# Altium integrated library FPGA NB3000 Port-Plugin.IntLib: 58 symbols
Pins are listed as number, name and electrical type; pins without a type are passive.

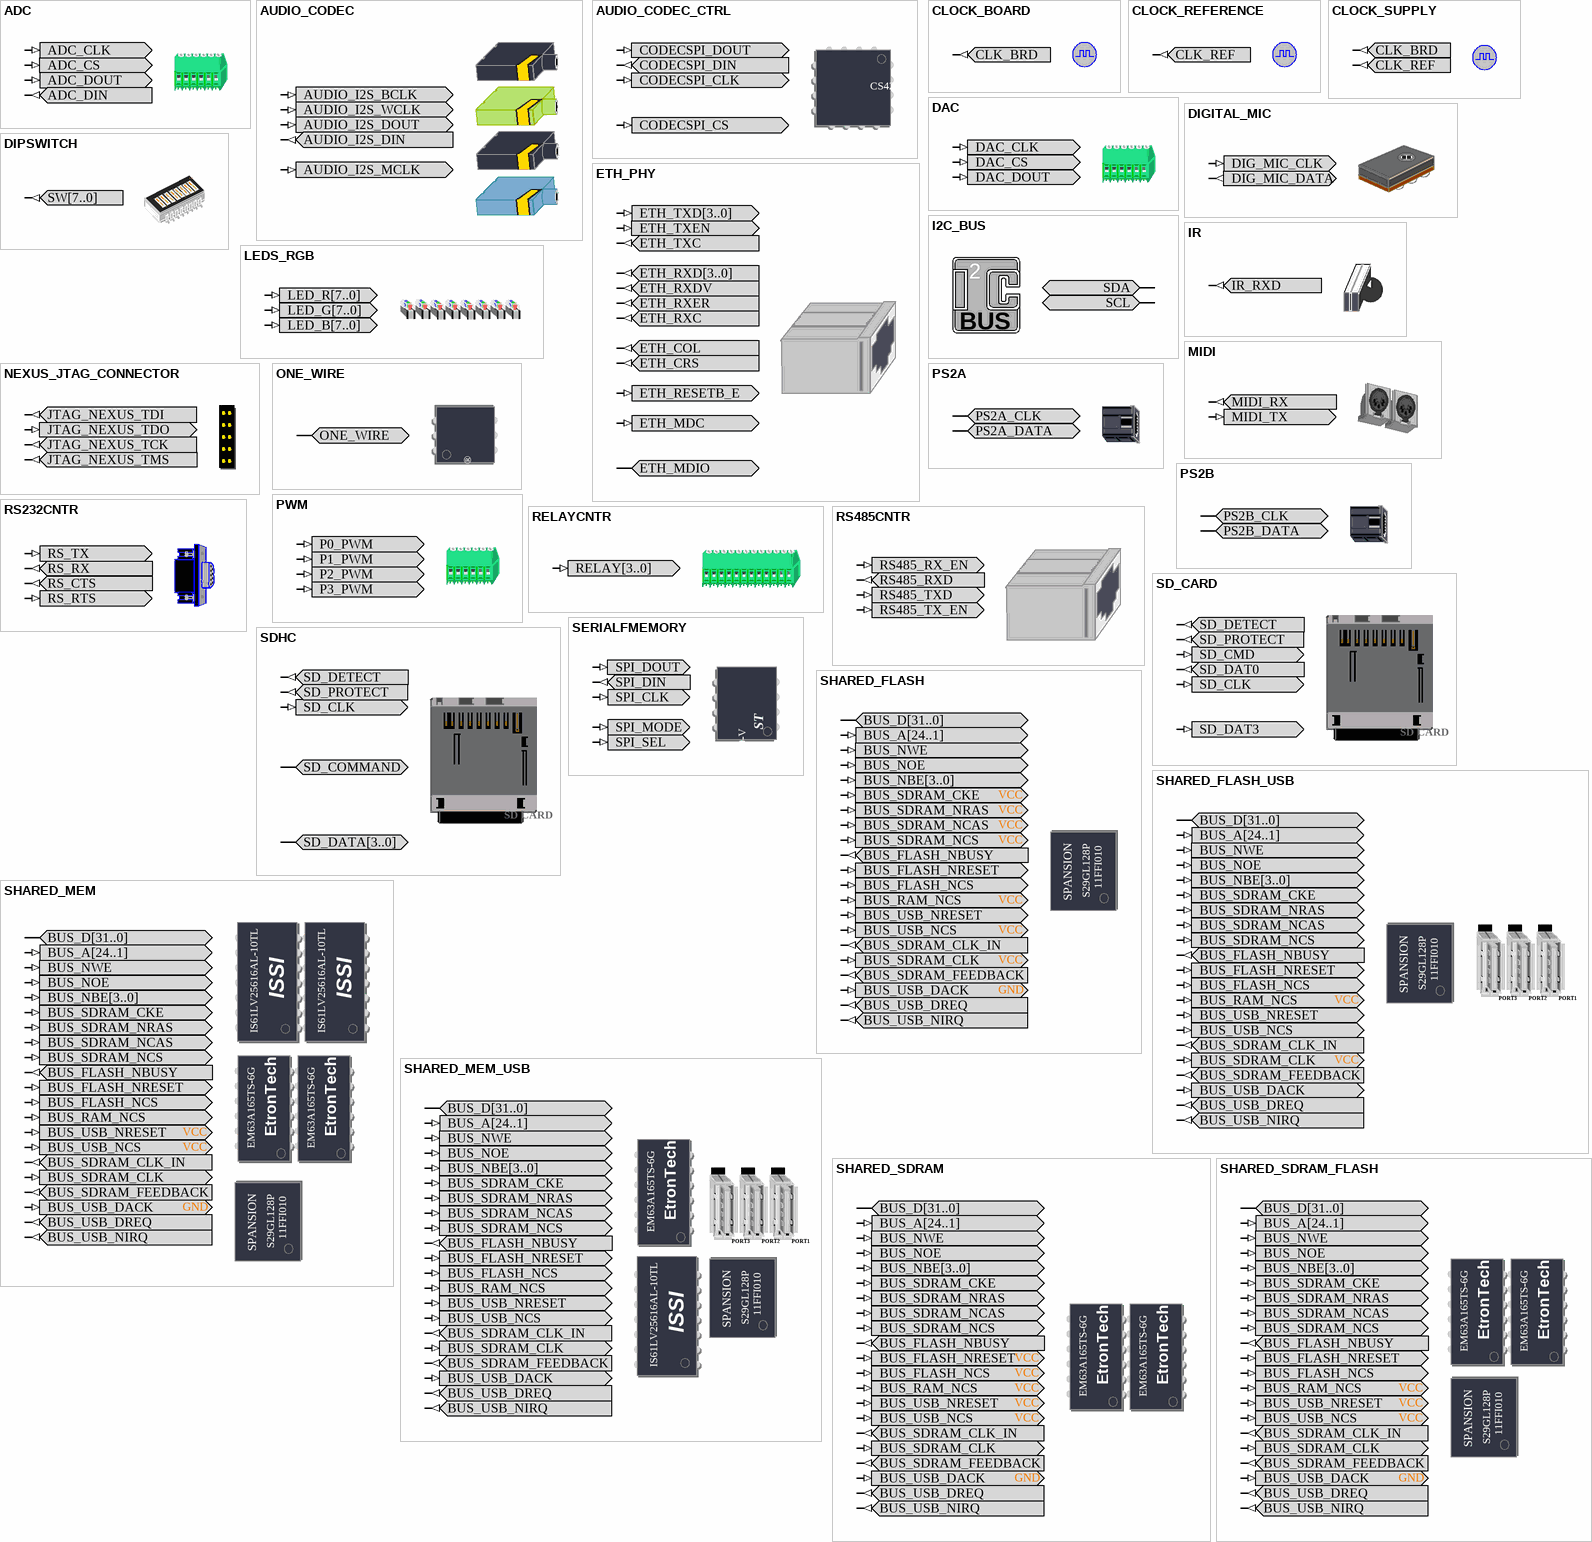
[diagram p0: symbols ADC to SHARED_SDRAM_FLASH]

## ADC
designator ?  (value not drawn)
Digital Analog Converter; PortComponent: True; Published: 11-Mar-2009; Publisher: Altium Limited; HelpURL: https://wiki.altium.com/display/ADOH/NanoBoard+3000+-+ADC+Interface; UseInDSF: True
pins: ADC_CLK (in), ADC_CS (in), ADC_DIN (out), ADC_DOUT (in)

## AUDIO_CODEC
designator ?  (value not drawn)
Audio Codec; PortComponent: True; IncludeInDSF: AUDIO_CS4270; Published: 22-Jan-2007; Publisher: Altium Limited; HelpURL: https://wiki.altium.com/display/ADOH/NanoBoard+3000+-+Audio+CODEC
pins: AUDIO_I2S_BCLK (in), AUDIO_I2S_DIN (out), AUDIO_I2S_DOUT (in), AUDIO_I2S_MCLK (in), AUDIO_I2S_WCLK (in)

## AUDIO_CODEC_CTRL
designator ?
Audio Codec Control; PortComponent: True; Published: 22-Jan-2007; Publisher: Altium Limited; HelpURL: https://wiki.altium.com/display/ADOH/NanoBoard+3000+-+Audio+CODEC
pins: CODECSPI_CLK (in), CODECSPI_CS (in), CODECSPI_DIN (out), CODECSPI_DOUT (in)
text: CS4270

## CLOCK_BOARD
designator ?  (value not drawn)
Global System Clock Supply; PortComponent: True; Published: 19-Nov-2003; Publisher: Altium Limited; HelpURL: https://wiki.altium.com/display/ADOH/NanoBoard+3000+-+System+Clocks; UseInDSF: True
pins: CLK_BRD (out)

## CLOCK_REFERENCE
designator ?  (value not drawn)
Global System Clock Reference Supply; PortComponent: True; Published: 19-Nov-2003; Publisher: Altium Limited; HelpURL: https://wiki.altium.com/display/ADOH/NanoBoard+3000+-+System+Clocks
pins: CLK_REF (out)

## CLOCK_SUPPLY
designator ?  (value not drawn)
Global System Clock and Reference Supply; PortComponent: True; Published: 19-Nov-2003; Publisher: Altium Limited; HelpURL: https://wiki.altium.com/display/ADOH/NanoBoard+3000+-+System+Clocks; UseInDSF: True
pins: CLK_BRD (out), CLK_REF (out)

## DAC
designator ?, comment ADCDAC  (value not drawn)
Digital Analog Converter; PortComponent: True; Published: 11-Mar-2009; Publisher: Altium Limited; HelpURL: https://wiki.altium.com/display/ADOH/NanoBoard+3000+-+DAC+Interface; UseInDSF: True
pins: DAC_CLK (in), DAC_CS (in), DAC_DOUT (in)

## DIGITAL_MIC
designator ?  (value not drawn)
Digital Microphone; PortComponent: True; Published: 31-Jul-2009; Publisher: Altium Limited; HelpURL: http://wiki.altium.com/display/ADOH/NanoBoard+3000+-+Digital+Mic; IncludeInDSF: DIGITAL_MIC
pins: DIG_MIC_CLK (in), DIG_MIC_DATA (out)

## DIPSWITCH
designator ?
8-Way Dip-Switch; PortComponent: True; Published: 19-Nov-2003; Publisher: Altium Limited; HelpURL: https://wiki.altium.com/display/ADOH/NanoBoard+3000+-+User+DIP-Switch
pins: SW[7..0] (out)
text: ON; 1; 4; 3; 2; 7; 6; 5; 8

## ETH_PHY
designator ?
Ethernet PHY-interface; PortComponent: True; Published: 22-Jan-2007; Publisher: Altium Limited; HelpURL: https://wiki.altium.com/display/ADOH/NanoBoard+3000+-+Ethernet+Port
pins: ETH_COL (out), ETH_CRS (out), ETH_MDC (in), ETH_MDIO (io), ETH_RESETB_E (in), ETH_RXC (out), ETH_RXD[3..0] (out), ETH_RXDV (out), ETH_RXER (out), ETH_TXC (out), ETH_TXD[3..0] (in), ETH_TXEN (in)

## I2C_BUS
designator ?
I2C Bus Interface; PortComponent: True; Published: 22-Jan-2007; Publisher: Altium Limited; HelpURL: https://wiki.altium.com/display/ADOH/Using+Multiple+SPI+and+I2C+Devices+in+a+Design
pins: SCL (io), SDA (io)
text: 2; BUS

## IR
designator ?
4 Mbits/s IRDA; PortComponent: True; Published: 22-Jan-2007; Publisher: Altium Limited; HelpURL: https://wiki.altium.com/display/ADOH/NanoBoard+3000+-+IR+Receiver
pins: IR_RXD (out)

## LEDS_RGB
designator ?  (value not drawn)
LEDS RGB; PortComponent: True; Published: 11-Mar-2009; Publisher: Altium Limited; HelpURL: https://wiki.altium.com/display/ADOH/NanoBoard+3000+-+RGB+User+LEDs
pins: LED_B[7..0] (in), LED_G[7..0] (in), LED_R[7..0] (in)

## MIDI
designator ?  (value not drawn)
MIDI Connector; PortComponent: True; Published: 16-Mar-2009; Publisher: Altium Limited; HelpURL: https://wiki.altium.com/display/ADOH/NanoBoard+3000+-+MIDI+Interface
pins: MIDI_RX (out), MIDI_TX (in)

## NEXUS_JTAG_CONNECTOR
designator ?
JTAG Port; PortComponent: True; Published: 19-Nov-2003; Publisher: Altium Limited; HelpURL: https://wiki.altium.com/display/ADOH/Enabling+the+Soft+Devices+JTAG+Chain
pins: JTAG_NEXUS_TCK (out), JTAG_NEXUS_TDI (out), JTAG_NEXUS_TDO (in), JTAG_NEXUS_TMS (out)

## ONE_WIRE
designator ?
Peripheral Board One Wire; PortComponent: True; Published: 25-June-2007; Publisher: Altium Limited; HelpURL: https://wiki.altium.com/display/ADOH/Peripheral+Board+1-Wire+Communications
pins: ONE_WIRE (io)
text: 1-Wire ®

## PS2A
designator ?
Mouse PS2 Connector; PortComponent: True; Published: 19-Nov-2003; Publisher: Altium Limited; HelpURL: https://wiki.altium.com/display/ADOH/NanoBoard+3000+-+PS2+Keyboard+and+Mouse+Ports
pins: PS2A_CLK (io), PS2A_DATA (io)

## PS2B
designator ?
Key Board PS2 Connector; PortComponent: True; Published: 19-Nov-2003; Publisher: Altium Limited; HelpURL: https://wiki.altium.com/display/ADOH/NanoBoard+3000+-+PS2+Keyboard+and+Mouse+Ports
pins: PS2B_CLK (io), PS2B_DATA (io)

## PWM
designator ?  (value not drawn)
Pulse Width Modulation; PortComponent: True; Published: 11-Mar-2008; Publisher: Altium Limited; HelpURL: https://wiki.altium.com/display/ADOH/NanoBoard+3000+-+PWM+Power+Drivers
pins: P0_PWM (in), P1_PWM (in), P2_PWM (in), P3_PWM (in)

## RELAYCNTR
designator ?  (value not drawn)
RELAY; PortComponent: True; Published: 11-Mar-2008; Publisher: Altium Limited; HelpURL: https://wiki.altium.com/display/ADOH/NanoBoard+3000+-+Relays
pins: RELAY[3..0] (in)

## RS232CNTR
designator ?
DCE Serial Port Connector; PortComponent: True; Published: 19-Nov-2003; Publisher: Altium Limited; HelpURL: https://wiki.altium.com/display/ADOH/NanoBoard+3000+-+RS-232+Serial+Interface
pins: RS_CTS (out), RS_RTS (in), RS_RX (out), RS_TX (in)

## RS485CNTR
designator ?  (value not drawn)
RS485 Port Connector; PortComponent: True; Published: 11-Mar-2009; Publisher: Altium Limited; HelpURL: https://wiki.altium.com/display/ADOH/NanoBoard+3000+-+RS-485+Serial+Interface
pins: RS485_RX_EN (in), RS485_RXD (out), RS485_TX_EN (in), RS485_TXD (in)

## SD_CARD
designator ?  (value not drawn)
Secure Digital Card Socket; PortComponent: True; Published: 22-Jan-2007; Publisher: Altium Limited; UseInDSF: True; HelpURL: https://wiki.altium.com/display/ADOH/NanoBoard+3000+-+SD+Card+Reader+%28User+FPGA%29
pins: SD_CLK (in), SD_CMD (in), SD_DAT0 (out), SD_DAT3 (in), SD_DETECT (out), SD_PROTECT (out)
text: SD CARD

## SDHC
designator ?  (value not drawn)
High Capacity Secure Digital Socket; PortComponent: True; Published: 30-Nov-2009; Publisher: Altium Limited; UseInDSF: True; HelpURL: http://wiki.altium.com/display/ADOH/NanoBoard+3000+-+SD+Card+Reader+%28Host+FPGA%29
pins: SD_CLK (in), SD_COMMAND (io), SD_DATA[3..0] (io), SD_DETECT (out), SD_PROTECT (out)
text: SD CARD

## SERIALFMEMORY
designator ?  (value not drawn)
Serial SPI Flash RAM; PortComponent: True; Published: 19-Nov-2003; Publisher: Altium Limited; HelpURL: https://wiki.altium.com/display/ADOH/NanoBoard+3000+-+Serial+SPI+Flash+Memory; UseInDSF: True
pins: SPI_CLK (in), SPI_DIN (out), SPI_DOUT (in), SPI_MODE (in), SPI_SEL (in)
text: ST; M25P80-V

## SHARED_FLASH
designator ?
Common-Bus Flash; PortComponent: True; Published: 14-May-2007; Publisher: Altium Limited; HelpURL: https://wiki.altium.com/display/ADOH/Accessing+Common-Bus+Resources+on+the+NanoBoard+3000
pins: BUS_A[24..1] (in), BUS_D[31..0] (io), BUS_FLASH_NBUSY (out), BUS_FLASH_NCS (in), BUS_FLASH_NRESET (in), BUS_NBE[3..0] (in), BUS_NOE (in), BUS_NWE (in), BUS_RAM_NCS (in), BUS_SDRAM_CKE (in), BUS_SDRAM_CLK (in), BUS_SDRAM_CLK_IN (out), BUS_SDRAM_FEEDBACK (out), BUS_SDRAM_NCAS (in), BUS_SDRAM_NCS (in), BUS_SDRAM_NRAS (in), BUS_USB_DACK (in), BUS_USB_DREQ (out), BUS_USB_NCS (in), BUS_USB_NIRQ (out), BUS_USB_NRESET (in)
text: VCC; 11FFI010; SPANSION; S29GL128P; GND

## SHARED_FLASH_USB
designator ?
Common-Bus Flash USB; PortComponent: True; Published: 14-May-2007; Publisher: Altium Limited; HelpURL: https://wiki.altium.com/display/ADOH/Accessing+Common-Bus+Resources+on+the+NanoBoard+3000
pins: BUS_A[24..1] (in), BUS_D[31..0] (io), BUS_FLASH_NBUSY (out), BUS_FLASH_NCS (in), BUS_FLASH_NRESET (in), BUS_NBE[3..0] (in), BUS_NOE (in), BUS_NWE (in), BUS_RAM_NCS (in), BUS_SDRAM_CKE (in), BUS_SDRAM_CLK (in), BUS_SDRAM_CLK_IN (out), BUS_SDRAM_FEEDBACK (out), BUS_SDRAM_NCAS (in), BUS_SDRAM_NCS (in), BUS_SDRAM_NRAS (in), BUS_USB_DACK (in), BUS_USB_DREQ (out), BUS_USB_NCS (in), BUS_USB_NIRQ (out), BUS_USB_NRESET (in)
text: USB2; 11FFI010; SPANSION; S29GL128P; PORT3; PORT2; PORT1; VCC

## SHARED_MEM
designator ?
Common-Bus SRAM SDRAM Flash; PortComponent: True; Published: 14-May-2007; Publisher: Altium Limited; HelpURL: https://wiki.altium.com/display/ADOH/Accessing+Common-Bus+Resources+on+the+NanoBoard+3000
pins: BUS_A[24..1] (in), BUS_D[31..0] (io), BUS_FLASH_NBUSY (out), BUS_FLASH_NCS (in), BUS_FLASH_NRESET (in), BUS_NBE[3..0] (in), BUS_NOE (in), BUS_NWE (in), BUS_RAM_NCS (in), BUS_SDRAM_CKE (in), BUS_SDRAM_CLK (in), BUS_SDRAM_CLK_IN (out), BUS_SDRAM_FEEDBACK (out), BUS_SDRAM_NCAS (in), BUS_SDRAM_NCS (in), BUS_SDRAM_NRAS (in), BUS_USB_DACK (in), BUS_USB_DREQ (out), BUS_USB_NCS (in), BUS_USB_NIRQ (out), BUS_USB_NRESET (in)
text: ISSI; IS61LV25616AL-10TL; VCC; EtronTech; EM63A165TS-6G; GND; 11FFI010; SPANSION; S29GL128P

## SHARED_MEM_USB
designator ?
Common-Bus Memory USB; PortComponent: True; Published: 14-May-2007; Publisher: Altium Limited; HelpURL: https://wiki.altium.com/display/ADOH/Accessing+Common-Bus+Resources+on+the+NanoBoard+3000
pins: BUS_A[24..1] (in), BUS_D[31..0] (io), BUS_FLASH_NBUSY (out), BUS_FLASH_NCS (in), BUS_FLASH_NRESET (in), BUS_NBE[3..0] (in), BUS_NOE (in), BUS_NWE (in), BUS_RAM_NCS (in), BUS_SDRAM_CKE (in), BUS_SDRAM_CLK (in), BUS_SDRAM_CLK_IN (out), BUS_SDRAM_FEEDBACK (out), BUS_SDRAM_NCAS (in), BUS_SDRAM_NCS (in), BUS_SDRAM_NRAS (in), BUS_USB_DACK (in), BUS_USB_DREQ (out), BUS_USB_NCS (in), BUS_USB_NIRQ (out), BUS_USB_NRESET (in)
text: USB2; EtronTech; EM63A165TS-6G; PORT3; PORT2; PORT1; 11FFI010; SPANSION; S29GL128P; ISSI; IS61LV25616AL-10TL

## SHARED_SDRAM
designator ?
Common-Bus Synchronous Dynamic RAM; PortComponent: True; Published: 14-May-2007; Publisher: Altium Limited; HelpURL: https://wiki.altium.com/display/ADOH/Accessing+Common-Bus+Resources+on+the+NanoBoard+3000
pins: BUS_A[24..1] (in), BUS_D[31..0] (io), BUS_FLASH_NBUSY (out), BUS_FLASH_NCS (in), BUS_FLASH_NRESET (in), BUS_NBE[3..0] (in), BUS_NOE (in), BUS_NWE (in), BUS_RAM_NCS (in), BUS_SDRAM_CKE (in), BUS_SDRAM_CLK (in), BUS_SDRAM_CLK_IN (out), BUS_SDRAM_FEEDBACK (out), BUS_SDRAM_NCAS (in), BUS_SDRAM_NCS (in), BUS_SDRAM_NRAS (in), BUS_USB_DACK (in), BUS_USB_DREQ (out), BUS_USB_NCS (in), BUS_USB_NIRQ (out), BUS_USB_NRESET (in)
text: VCC; EtronTech; EM63A165TS-6G; GND

## SHARED_SDRAM_FLASH
designator ?
Common-Bus SDRAM Flash; PortComponent: True; Published: 14-May-2007; Publisher: Altium Limited; HelpURL: https://wiki.altium.com/display/ADOH/Accessing+Common-Bus+Resources+on+the+NanoBoard+3000
pins: BUS_A[24..1] (in), BUS_D[31..0] (io), BUS_FLASH_NBUSY (out), BUS_FLASH_NCS (in), BUS_FLASH_NRESET (in), BUS_NBE[3..0] (in), BUS_NOE (in), BUS_NWE (in), BUS_RAM_NCS (in), BUS_SDRAM_CKE (in), BUS_SDRAM_CLK (in), BUS_SDRAM_CLK_IN (out), BUS_SDRAM_FEEDBACK (out), BUS_SDRAM_NCAS (in), BUS_SDRAM_NCS (in), BUS_SDRAM_NRAS (in), BUS_USB_DACK (in), BUS_USB_DREQ (out), BUS_USB_NCS (in), BUS_USB_NIRQ (out), BUS_USB_NRESET (in)
text: EtronTech; EM63A165TS-6G; VCC; 11FFI010; SPANSION; S29GL128P; GND

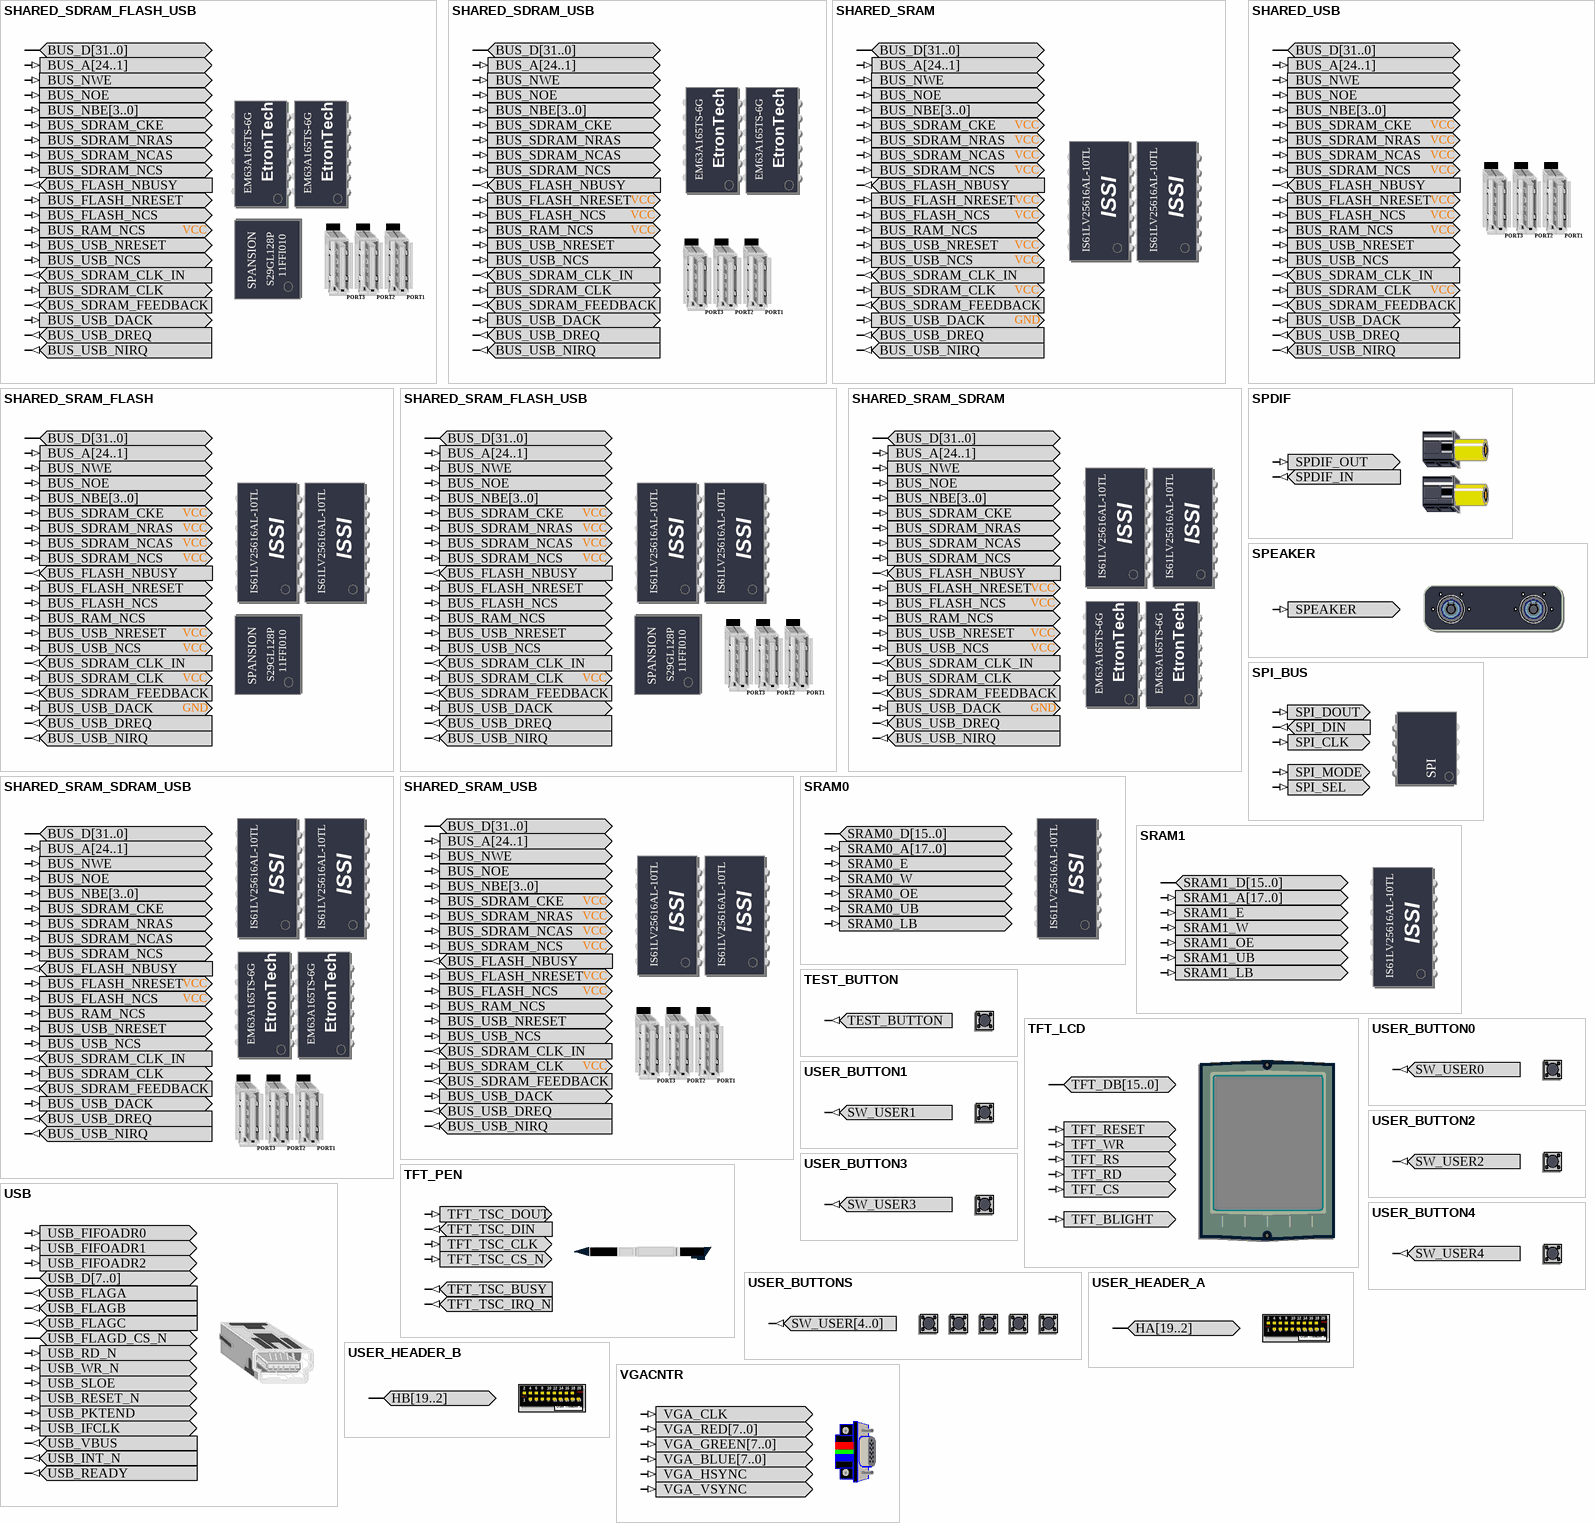
[diagram p1: symbols SHARED_SDRAM_FLASH_USB to VGACNTR]

## SHARED_SDRAM_FLASH_USB
designator ?
Common-Bus SDRAM Flash USB; PortComponent: True; Published: 14-May-2007; Publisher: Altium Limited; HelpURL: https://wiki.altium.com/display/ADOH/Accessing+Common-Bus+Resources+on+the+NanoBoard+3000
pins: BUS_A[24..1] (in), BUS_D[31..0] (io), BUS_FLASH_NBUSY (out), BUS_FLASH_NCS (in), BUS_FLASH_NRESET (in), BUS_NBE[3..0] (in), BUS_NOE (in), BUS_NWE (in), BUS_RAM_NCS (in), BUS_SDRAM_CKE (in), BUS_SDRAM_CLK (in), BUS_SDRAM_CLK_IN (out), BUS_SDRAM_FEEDBACK (out), BUS_SDRAM_NCAS (in), BUS_SDRAM_NCS (in), BUS_SDRAM_NRAS (in), BUS_USB_DACK (in), BUS_USB_DREQ (out), BUS_USB_NCS (in), BUS_USB_NIRQ (out), BUS_USB_NRESET (in)
text: EtronTech; EM63A165TS-6G; USB2; VCC; 11FFI010; SPANSION; S29GL128P; PORT3; PORT2; PORT1

## SHARED_SDRAM_USB
designator ?
Common-Bus SDRAM USB; PortComponent: True; Published: 14-May-2007; Publisher: Altium Limited; HelpURL: https://wiki.altium.com/display/ADOH/Accessing+Common-Bus+Resources+on+the+NanoBoard+3000
pins: BUS_A[24..1] (in), BUS_D[31..0] (io), BUS_FLASH_NBUSY (out), BUS_FLASH_NCS (in), BUS_FLASH_NRESET (in), BUS_NBE[3..0] (in), BUS_NOE (in), BUS_NWE (in), BUS_RAM_NCS (in), BUS_SDRAM_CKE (in), BUS_SDRAM_CLK (in), BUS_SDRAM_CLK_IN (out), BUS_SDRAM_FEEDBACK (out), BUS_SDRAM_NCAS (in), BUS_SDRAM_NCS (in), BUS_SDRAM_NRAS (in), BUS_USB_DACK (in), BUS_USB_DREQ (out), BUS_USB_NCS (in), BUS_USB_NIRQ (out), BUS_USB_NRESET (in)
text: EtronTech; EM63A165TS-6G; VCC; USB2; PORT3; PORT2; PORT1

## SHARED_SRAM
designator ?
Common-Bus SRAM; PortComponent: True; Published: 14-May-2007; Publisher: Altium Limited; HelpURL: https://wiki.altium.com/display/ADOH/Accessing+Common-Bus+Resources+on+the+NanoBoard+3000
pins: BUS_A[24..1] (in), BUS_D[31..0] (io), BUS_FLASH_NBUSY (out), BUS_FLASH_NCS (in), BUS_FLASH_NRESET (in), BUS_NBE[3..0] (in), BUS_NOE (in), BUS_NWE (in), BUS_RAM_NCS (in), BUS_SDRAM_CKE (in), BUS_SDRAM_CLK (in), BUS_SDRAM_CLK_IN (out), BUS_SDRAM_FEEDBACK (out), BUS_SDRAM_NCAS (in), BUS_SDRAM_NCS (in), BUS_SDRAM_NRAS (in), BUS_USB_DACK (in), BUS_USB_DREQ (out), BUS_USB_NCS (in), BUS_USB_NIRQ (out), BUS_USB_NRESET (in)
text: VCC; ISSI; IS61LV25616AL-10TL; GND

## SHARED_SRAM_FLASH
designator ?
Common-Bus SRAM Flash; PortComponent: True; Published: 14-May-2007; Publisher: Altium Limited; HelpURL: https://wiki.altium.com/display/ADOH/Accessing+Common-Bus+Resources+on+the+NanoBoard+3000
pins: BUS_A[24..1] (in), BUS_D[31..0] (io), BUS_FLASH_NBUSY (out), BUS_FLASH_NCS (in), BUS_FLASH_NRESET (in), BUS_NBE[3..0] (in), BUS_NOE (in), BUS_NWE (in), BUS_RAM_NCS (in), BUS_SDRAM_CKE (in), BUS_SDRAM_CLK (in), BUS_SDRAM_CLK_IN (out), BUS_SDRAM_FEEDBACK (out), BUS_SDRAM_NCAS (in), BUS_SDRAM_NCS (in), BUS_SDRAM_NRAS (in), BUS_USB_DACK (in), BUS_USB_DREQ (out), BUS_USB_NCS (in), BUS_USB_NIRQ (out), BUS_USB_NRESET (in)
text: VCC; ISSI; IS61LV25616AL-10TL; 11FFI010; SPANSION; S29GL128P; GND

## SHARED_SRAM_FLASH_USB
designator ?
Common-Bus SRAM Flash USB; PortComponent: True; Published: 14-May-2007; Publisher: Altium Limited; HelpURL: https://wiki.altium.com/display/ADOH/Accessing+Common-Bus+Resources+on+the+NanoBoard+3000
pins: BUS_A[24..1] (in), BUS_D[31..0] (io), BUS_FLASH_NBUSY (out), BUS_FLASH_NCS (in), BUS_FLASH_NRESET (in), BUS_NBE[3..0] (in), BUS_NOE (in), BUS_NWE (in), BUS_RAM_NCS (in), BUS_SDRAM_CKE (in), BUS_SDRAM_CLK (in), BUS_SDRAM_CLK_IN (out), BUS_SDRAM_FEEDBACK (out), BUS_SDRAM_NCAS (in), BUS_SDRAM_NCS (in), BUS_SDRAM_NRAS (in), BUS_USB_DACK (in), BUS_USB_DREQ (out), BUS_USB_NCS (in), BUS_USB_NIRQ (out), BUS_USB_NRESET (in)
text: VCC; ISSI; IS61LV25616AL-10TL; USB2; 11FFI010; SPANSION; S29GL128P; PORT3; PORT2; PORT1

## SHARED_SRAM_SDRAM
designator ?
Common-Bus SRAM SDRAM; PortComponent: True; Published: 14-May-2007; Publisher: Altium Limited; HelpURL: https://wiki.altium.com/display/ADOH/Accessing+Common-Bus+Resources+on+the+NanoBoard+3000
pins: BUS_A[24..1] (in), BUS_D[31..0] (io), BUS_FLASH_NBUSY (out), BUS_FLASH_NCS (in), BUS_FLASH_NRESET (in), BUS_NBE[3..0] (in), BUS_NOE (in), BUS_NWE (in), BUS_RAM_NCS (in), BUS_SDRAM_CKE (in), BUS_SDRAM_CLK (in), BUS_SDRAM_CLK_IN (out), BUS_SDRAM_FEEDBACK (out), BUS_SDRAM_NCAS (in), BUS_SDRAM_NCS (in), BUS_SDRAM_NRAS (in), BUS_USB_DACK (in), BUS_USB_DREQ (out), BUS_USB_NCS (in), BUS_USB_NIRQ (out), BUS_USB_NRESET (in)
text: ISSI; IS61LV25616AL-10TL; VCC; EtronTech; EM63A165TS-6G; GND

## SHARED_SRAM_SDRAM_USB
designator ?
Common-Bus SRAM SDRAM USB; PortComponent: True; Published: 14-May-2007; Publisher: Altium Limited; HelpURL: https://wiki.altium.com/display/ADOH/Accessing+Common-Bus+Resources+on+the+NanoBoard+3000
pins: BUS_A[24..1] (in), BUS_D[31..0] (io), BUS_FLASH_NBUSY (out), BUS_FLASH_NCS (in), BUS_FLASH_NRESET (in), BUS_NBE[3..0] (in), BUS_NOE (in), BUS_NWE (in), BUS_RAM_NCS (in), BUS_SDRAM_CKE (in), BUS_SDRAM_CLK (in), BUS_SDRAM_CLK_IN (out), BUS_SDRAM_FEEDBACK (out), BUS_SDRAM_NCAS (in), BUS_SDRAM_NCS (in), BUS_SDRAM_NRAS (in), BUS_USB_DACK (in), BUS_USB_DREQ (out), BUS_USB_NCS (in), BUS_USB_NIRQ (out), BUS_USB_NRESET (in)
text: ISSI; IS61LV25616AL-10TL; VCC; EtronTech; EM63A165TS-6G; USB2; PORT3; PORT2; PORT1

## SHARED_SRAM_USB
designator ?
Common-Bus SRAM and USB; PortComponent: True; Published: 14-May-2007; Publisher: Altium Limited; HelpURL: https://wiki.altium.com/display/ADOH/Accessing+Common-Bus+Resources+on+the+NanoBoard+3000
pins: BUS_A[24..1] (in), BUS_D[31..0] (io), BUS_FLASH_NBUSY (out), BUS_FLASH_NCS (in), BUS_FLASH_NRESET (in), BUS_NBE[3..0] (in), BUS_NOE (in), BUS_NWE (in), BUS_RAM_NCS (in), BUS_SDRAM_CKE (in), BUS_SDRAM_CLK (in), BUS_SDRAM_CLK_IN (out), BUS_SDRAM_FEEDBACK (out), BUS_SDRAM_NCAS (in), BUS_SDRAM_NCS (in), BUS_SDRAM_NRAS (in), BUS_USB_DACK (in), BUS_USB_DREQ (out), BUS_USB_NCS (in), BUS_USB_NIRQ (out), BUS_USB_NRESET (in)
text: VCC; ISSI; IS61LV25616AL-10TL; USB2; PORT3; PORT2; PORT1

## SHARED_USB
designator ?
Common-Bus USB; PortComponent: True; Published: 14-May-2007; Publisher: Altium Limited; HelpURL: https://wiki.altium.com/display/ADOH/Accessing+Common-Bus+Resources+on+the+NanoBoard+3000
pins: BUS_A[24..1] (in), BUS_D[31..0] (io), BUS_FLASH_NBUSY (out), BUS_FLASH_NCS (in), BUS_FLASH_NRESET (in), BUS_NBE[3..0] (in), BUS_NOE (in), BUS_NWE (in), BUS_RAM_NCS (in), BUS_SDRAM_CKE (in), BUS_SDRAM_CLK (in), BUS_SDRAM_CLK_IN (out), BUS_SDRAM_FEEDBACK (out), BUS_SDRAM_NCAS (in), BUS_SDRAM_NCS (in), BUS_SDRAM_NRAS (in), BUS_USB_DACK (in), BUS_USB_DREQ (out), BUS_USB_NCS (in), BUS_USB_NIRQ (out), BUS_USB_NRESET (in)
text: VCC; USB2; PORT3; PORT2; PORT1

## SPDIF
designator ?  (value not drawn)
Sony Philips Digital InterFace; PortComponent: True; Published: 11-Mar-2008; Publisher: Altium Limited; HelpURL: https://wiki.altium.com/display/ADOH/NanoBoard+3000+-+SPDIF+Interface
pins: SPDIF_IN (out), SPDIF_OUT (in)

## SPEAKER
designator ?
Sound interface; PortComponent: True; Published: 16-Apr-2007; Publisher: Altium Limited; HelpURL: https://wiki.altium.com/display/ADOH/NanoBoard+3000+-+Buzzer+Signal
pins: SPEAKER (in)

## SPI_BUS
designator ?, comment SERIALFMEMORY  (value not drawn)
Serial SPI Flash RAM; PortComponent: True; Published: 19-Nov-2003; Publisher: Altium Limited; HelpURL: https://wiki.altium.com/display/ADOH/Using+Multiple+SPI+and+I2C+Devices+in+a+Design; UseInDSF: True
pins: SPI_CLK (in), SPI_DIN (out), SPI_DOUT (in), SPI_MODE (in), SPI_SEL (in)
text: SPI

## SRAM0
designator ?
Free Static RAM - Daughterboard; PortComponent: True; Published: 14-May-2007; Publisher: Altium Limited; HelpURL: https://wiki.altium.com/display/ADOH/NanoBoard+3000+-+Independent+SRAM
pins: SRAM0_A[17..0] (in), SRAM0_D[15..0] (io), SRAM0_E (in), SRAM0_LB (in), SRAM0_OE (in), SRAM0_UB (in), SRAM0_W (in)
text: ISSI; IS61LV25616AL-10TL

## SRAM1
designator ?
Free Static RAM - Daughterboard; PortComponent: True; Published: 14-May-2007; Publisher: Altium Limited; HelpURL: https://wiki.altium.com/display/ADOH/NanoBoard+3000+-+Independent+SRAM
pins: SRAM1_A[17..0] (in), SRAM1_D[15..0] (io), SRAM1_E (in), SRAM1_LB (in), SRAM1_OE (in), SRAM1_UB (in), SRAM1_W (in)
text: ISSI; IS61LV25616AL-10TL

## TEST_BUTTON
designator ?
Test / Reset Button; PortComponent: True; Published: 19-Nov-2003; Publisher: Altium Limited; HelpURL: https://wiki.altium.com/display/ADOH/NanoBoard+3000+-+Test-Reset+Button
pins: TEST_BUTTON (out)

## TFT_LCD
designator ?
TFT LCD Panel; PortComponent: True; Published: 22-Jan-2007; Publisher: Altium Limited; HelpURL: https://wiki.altium.com/display/ADOH/NanoBoard+3000+-+TFT+LCD+Panel+%28with+Touch+Screen%29
pins: TFT_BLIGHT (in), TFT_CS (in), TFT_DB[15..0] (io), TFT_RD (in), TFT_RESET (in), TFT_RS (in), TFT_WR (in)

## TFT_PEN
designator ?, comment TOUCH_SCREEN_PEN  (value not drawn)
Touch Screen Pen Control; PortComponent: True; Published: 22-Jan-2007; Publisher: Altium Limited; HelpURL: https://wiki.altium.com/display/ADOH/NanoBoard+3000+-+TFT+LCD+Panel+%28with+Touch+Screen%29
pins: TFT_TSC_BUSY (out), TFT_TSC_CLK (in), TFT_TSC_CS_N (in), TFT_TSC_DIN (out), TFT_TSC_DOUT (in), TFT_TSC_IRQ_N (out)

## USB
designator ?
High Speed USB 2.0; PortComponent: True; Published: 22-Jan-2007; Publisher: Altium Limited; HelpURL: https://wiki.altium.com/display/ADOH/NanoBoard+3000+-+User+USB+Port
pins: USB_D[7..0] (io), USB_FIFOADR0 (in), USB_FIFOADR1 (in), USB_FIFOADR2 (in), USB_FLAGA (out), USB_FLAGB (out), USB_FLAGC (out), USB_FLAGD_CS_N (io), USB_IFCLK (in), USB_INT_N (out), USB_PKTEND (in), USB_RD_N (in), USB_READY (out), USB_RESET_N (in), USB_SLOE (in), USB_VBUS (out), USB_WR_N (in)

## USER_BUTTON0
designator ?
Generic User Button; PortComponent: True; Published: 16-Apr-2007; Publisher: Altium Limited; HelpURL: https://wiki.altium.com/display/ADOH/NanoBoard+3000+-+Generic+User+Switches
pins: SW_USER0 (out)

## USER_BUTTON1
designator ?
Generic User Button; PortComponent: True; Published: 16-Apr-2007; Publisher: Altium Limited; HelpURL: https://wiki.altium.com/display/ADOH/NanoBoard+3000+-+Generic+User+Switches
pins: SW_USER1 (out)

## USER_BUTTON2
designator ?
Generic User Button; PortComponent: True; Published: 16-Apr-2007; Publisher: Altium Limited; HelpURL: https://wiki.altium.com/display/ADOH/NanoBoard+3000+-+Generic+User+Switches
pins: SW_USER2 (out)

## USER_BUTTON3
designator ?
Generic User Button; PortComponent: True; Published: 16-Apr-2007; Publisher: Altium Limited; HelpURL: https://wiki.altium.com/display/ADOH/NanoBoard+3000+-+Generic+User+Switches
pins: SW_USER3 (out)

## USER_BUTTON4
designator ?
Generic User Button; PortComponent: True; Published: 16-Apr-2007; Publisher: Altium Limited; HelpURL: https://wiki.altium.com/display/ADOH/NanoBoard+3000+-+Generic+User+Switches
pins: SW_USER4 (out)

## USER_BUTTONS
designator ?
Generic User Buttons; PortComponent: True; Published: 16-Apr-2007; Publisher: Altium Limited; HelpURL: https://wiki.altium.com/display/ADOH/NanoBoard+3000+-+Generic+User+Switches
pins: SW_USER[4..0] (out)

## USER_HEADER_A
designator ?  (value not drawn)
User Header A; PortComponent: True; Published: 19-Nov-2003; Publisher: Altium Limited; HelpURL: https://wiki.altium.com/display/ADOH/NanoBoard+3000+-+User+IO+Headers
pins: HA[19..2] (io)
text: 2; 4; 6; 8; 10; 12; 14; 16; 18; 20; VCC; GND; 1; 3; 5; 7; 9; 11; 13; 15; 17; 19

## USER_HEADER_B
designator ?  (value not drawn)
User Header B; PortComponent: True; Published: 19-Nov-2003; Publisher: Altium Limited; HelpURL: https://wiki.altium.com/display/ADOH/NanoBoard+3000+-+User+IO+Headers
pins: HB[19..2] (io)
text: 2; 4; 6; 8; 10; 12; 14; 16; 18; 20; VCC; GND; 1; 3; 5; 7; 9; 11; 13; 15; 17; 19; User Header A

## VGACNTR
designator ?
VGA Dsub-15-Female-HD; PortComponent: True; Published: 14-May-2007; Publisher: Altium Limited; HelpURL: https://wiki.altium.com/display/ADOH/NanoBoard+3000+-+Video+Output
pins: VGA_BLUE[7..0] (in), VGA_CLK (in), VGA_GREEN[7..0] (in), VGA_HSYNC (in), VGA_RED[7..0] (in), VGA_VSYNC (in)